# Altium schematic symbol library SCH - DRIVER - LED - TI TPS92210_D_8.SchLib: 1 symbol
Pins are listed as number, name and electrical type; pins without a type are passive.

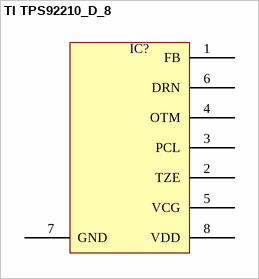
[diagram p0: symbol TI TPS92210_D_8]

## TI TPS92210_D_8
designator IC?  (value not drawn)
pins: 1 FB, 2 TZE, 3 PCL, 4 OTM, 5 VCG, 6 DRN, 7 GND, 8 VDD